# Altium footprint library ESP32-S3-WROOM-2.PcbLib: 1 footprints
Each footprint in its own frame and in the unit in brackets; x right, y up, seen from the top. Pads: shape width x height; smd on the part's side, far side on the other; paste and mask are expansions set on the pad; w line width, h text height; cw(c..) or ccw(c..) is an arc to the next point about the centre after c.
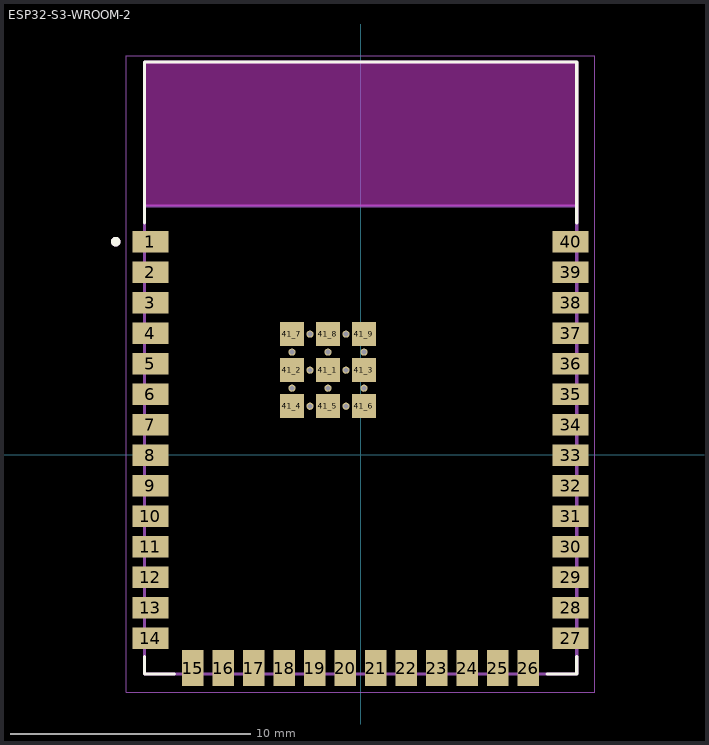
[diagram p0: the footprint, top view; thin cyan lines are the x and y axes]

## ESP32-S3-WROOM-2 [mm]
pads (61):
  rect 1.5x0.9 smd: 1(-8.75,8.88) 2(-8.75,7.61) 3(-8.75,6.34) 4(-8.75,5.07) 5(-8.75,3.8) 6(-8.75,2.53) 7(-8.75,1.26) 8(-8.75,-0.01) 9(-8.75,-1.28) 10(-8.75,-2.55) 11(-8.75,-3.82) 12(-8.75,-5.09) 13(-8.75,-6.36) 14(-8.75,-7.63) 27(8.75,-7.63) 28(8.75,-6.36) 29(8.75,-5.09) 30(8.75,-3.82) 31(8.75,-2.55) 32(8.75,-1.28) 33(8.75,-0.01) 34(8.75,1.26) 35(8.75,2.53) 36(8.75,3.8) 37(8.75,5.07) 38(8.75,6.34) 39(8.75,7.61) 40(8.75,8.88)
  rect 0.9x1.5 smd: 15(-6.985,-8.88) 16(-5.715,-8.88) 17(-4.445,-8.88) 18(-3.175,-8.88) 19(-1.905,-8.88) 20(-0.635,-8.88) 21(0.635,-8.88) 22(1.905,-8.88) 23(3.175,-8.88) 24(4.445,-8.88) 25(5.715,-8.88) 26(6.985,-8.88)
  rect 1x1 smd: 41_1(-1.36,3.53) 41_2(-2.86,3.53) 41_3(0.14,3.53) 41_4(-2.86,2.03) 41_5(-1.36,2.03) 41_6(0.14,2.03) 41_7(-2.86,5.03) 41_8(-1.36,5.03) 41_9(0.14,5.03)
  round 0.3 hole 0.2 mask+0: 41_10(-1.36,4.28) 41_11(-2.86,4.28) 41_12(0.14,4.28) 41_13(-2.86,2.78) 41_14(-1.36,2.78) 41_15(0.14,2.78) 41_16(-2.11,5.03) 41_17(-0.61,5.03) 41_18(-2.11,3.53) 41_19(-0.61,3.53) 41_20(-2.11,2.03) 41_21(-0.61,2.03)
Top Overlay:
  circle w0.2: c-10.2,8.88 r0.1
  lines w0.127: -9,-8.4 -9,-9.13 -7.755,-9.13 ; -9,9.65 -9,16.37 9,16.37 9,9.65 ; 7.755,-9.13 9,-9.13 9,-8.4
Keep-Out Layer:
  region: 9,10.37 -9,10.37 -9,16.37 9,16.37
  region: 9,10.37 -9,10.37 -9,16.37 9,16.37
Mechanical 13:
  circle w0.2: c-10.2,8.88 r0.1
  lines w0.127: -9,10.37 9,10.37 ; -9,10.37 -9,16.37 9,16.37 9,10.37 ; -9,10.37 -9,-9.13 9,-9.13 9,10.37
  text "ANTENNA" at -4.5,13.12 h1.27
Mechanical 15:
  lines w0.05: -9.75,-9.88 9.75,-9.88 9.75,16.62 -9.75,16.62 -9.75,-9.88
3D body "step_temp.STEP": height 3.25, standoff 0, extent -9,-9.13 9,16.37